# Altium schematic symbol library Resistors.SchLib: 11 symbols
Pins are listed as number, name and electrical type; pins without a type are passive.

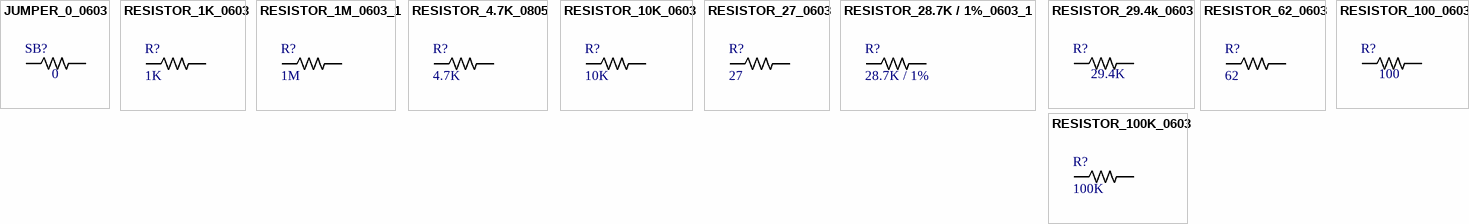
[diagram p0: symbols JUMPER_0_0603 to RESISTOR_100K_0603]

## JUMPER_0_0603
designator SB?, comment Value  (Ohms): 0  (hidden comment: 0 Ohm Jumper No Fit)
0 Ohm Jumper No Fit for Solder Bridge; Made By: Robert Pafford; ComponentLink1Description: Digikey; ComponentLink1URL: https://www.digikey.com/en/products/detail/koa-speer-electronics-inc/RK73B1JTTD101J/9844701
footprint RESISTOR_0603 (Resistor 0603)
pins: 1, 2

## RESISTOR_1K_0603
designator R?, comment Value  (Ohms): 1K  (hidden comment: 1k Ohm 5% 1/8W)
RES 1k OHM 5% 1/8W 0603; Tolerance: +/- 5%; Made By: Robert Pafford; ComponentLink1Description: Datasheet; ComponentLink1URL: https://www.bourns.com/docs/product-datasheets/CRxxxxx.pdf; Wattage: 1/8W; Supplier: Digikey; Digikey Part Numer: CR0603-JW-104ELFTR-ND; Supplier 1: Digi-Key; Supplier Part Number 1: 2019-RK73B1JTTD102JCT-ND
footprint RESISTOR_0603 (Resistor 0603)
pins: 1, 2

## RESISTOR_1M_0603_1
designator R?, comment 1M
RES 1M OHM 1/8W 0603; Tolerance: +/- 5%; Made By: Robert Pafford; ComponentLink1Description: Datasheet; ComponentLink1URL: https://www.bourns.com/docs/product-datasheets/CRxxxxx.pdf; Wattage: 1/8W; Supplier: Digikey; Digikey Part Numer: CR0603-JW-104ELFTR-ND; Supplier 1: Digi-Key; Supplier Part Number 1: RMCF0603JT1M00CT-ND; Value  (Ohms): 1M
footprint RESISTOR_0603 (Resistor 0603)
pins: 1, 2

## RESISTOR_4.7K_0805
designator R?, comment Value  (Ohms): 4.7K  (hidden comment: 4.7k Ohm 5% 1/8W)
RES 4.7k OHM 5% 1/8W 0805; Tolerance: +/- 5%; Made By: Robert Pafford; ComponentLink1Description: Datasheet; Wattage: 1/8W; Supplier: Digikey; Digikey Part Numer: CR0603-JW-104ELFTR-ND
footprint RESISTOR_0805
pins: 1, 2

## RESISTOR_10K_0603
designator R?, comment Value  (Ohms): 10K  (hidden comment: 10k Ohm 5% 1/10W)
RES 10k OHM 5% 1/10W 0603; Tolerance: +/- 5%; Wattage: 1/8W; Made By: Robert Pafford; ComponentLink1Description: Datasheet; ComponentLink1URL: https://www.bourns.com/docs/product-datasheets/CRxxxxx.pdf; Supplier: Digikey; Digikey Part Numer: CR0603-JW-104ELFTR-ND; Supplier 1: Digi-Key; Supplier Part Number 1: 2019-RK73B1JTTD103JCT-ND
footprint RESISTOR_0603 (Resistor 0603)
pins: 1, 2

## RESISTOR_27_0603
designator R?, comment Value  (Ohms): 27  (hidden comment: 27 Ohm 5% 1/8W)
RES 27 OHM 5% 1/8W 0603; Tolerance: +/- 5%; Made By: Robert Pafford; ComponentLink1Description: Datasheet; ComponentLink1URL: https://www.bourns.com/docs/product-datasheets/CRxxxxx.pdf; Wattage: 1/8W; Supplier: Digikey; Digikey Part Numer: CR0603-JW-104ELFTR-ND; Supplier 1: Digi-Key; Supplier Part Number 1: 2019-RK73B1JTTD270JCT-ND
footprint RESISTOR_0603 (Resistor 0603)
pins: 1, 2

## RESISTOR_28.7K / 1%_0603_1
designator R?, comment Value  (Ohms): 28.7K / 1%  (hidden comment: K / 1%)
RES 28.7K OHM 1% 1/8W 0603; Tolerance: +/- 5%; Made By: Robert Pafford; ComponentLink1Description: Datasheet; ComponentLink1URL: https://www.bourns.com/docs/product-datasheets/CRxxxxx.pdf; Wattage: 1/8W; Supplier: Digikey; Digikey Part Numer: CR0603-JW-104ELFTR-ND; Supplier 1: Digi-Key; Supplier Part Number 1: 541-28.7KHCT-ND
footprint RESISTOR_0603 (Resistor 0603)
pins: 1, 2

## RESISTOR_29.4k_0603
designator R?, comment Value  (Ohms): 29.4K  (hidden comment: 29.4k Ohm 1% 1/10W)
RES 29.4k OHM 1% 1/10W 0603; Tolerance: +/- 1%; Made By: Flip B; ComponentLink1Description: Digikey; ComponentLink1URL: https://www.yageo.com/upload/media/product/productsearch/datasheet/rchip/PYu-RC_Group_51_RoHS_L_11.pdf; Wattage: 1/10W; Supplier 1: Digi-Key; Supplier Part Number 1: 311-29.4KHRCT-ND
footprint RESISTOR_0603 (Resistor 0603)
pins: 1, 2

## RESISTOR_62_0603
designator R?, comment Value  (Ohms): 62  (hidden comment: 62 Ohm 1% 1/4W)
RES SMD 62 OHM 1% 1/4W 0603; Tolerance: +/- 1%; Made By: Robert Pafford; ComponentLink1Description: Datasheet; ComponentLink1URL: https://www.bourns.com/docs/product-datasheets/CRxxxxx.pdf; Wattage: 1/4W; Supplier: Digikey; Digikey Part Numer: CR0603-JW-104ELFTR-ND; Supplier 1: Digi-Key; Supplier Part Number 1: 541-RCS060362R0FKEACT-ND
footprint RESISTOR_0603 (Resistor 0603)
pins: 1, 2

## RESISTOR_100_0603
designator R?, comment Value  (Ohms): 100  (hidden comment: 100 Ohm 5% 1/8W)
RES 100 OHM 5% 1/8W 0603; Tolerance: +/- 5%; Made By: Flip B; ComponentLink1Description: Digikey; ComponentLink1URL: https://www.digikey.com/en/products/detail/koa-speer-electronics-inc/RK73B1JTTD101J/9844701; Supplier 1: Digi-Key; Supplier Part Number 1: 2019-RK73B1JTTD101JCT-ND; Wattage: 1/8W
footprint RESISTOR_0603 (Resistor 0603)
pins: 1, 2

## RESISTOR_100K_0603
designator R?, comment Value  (Ohms): 100K  (hidden comment: 100k Ohm 5% 1/8W)
RES 100k OHM 5% 1/10W 0603; Tolerance: +/- 5%; Made By: Flip B; ComponentLink1Description: Datasheet; ComponentLink1URL: https://www.bourns.com/docs/product-datasheets/CRxxxxx.pdf; Wattage: 1/10W; Supplier: Digikey; Digikey Part Numer: CR0603-JW-104ELFTR-ND; Supplier 1: Digi-Key; Supplier Part Number 1: CR0603-JW-104ELFCT-ND
footprint RESISTOR_0603 (Resistor 0603)
pins: 1, 2